# Altium schematic symbol library ADSP-BF548.Schlib: 1 symbol
Pins are listed as number, name and electrical type; pins without a type are passive.

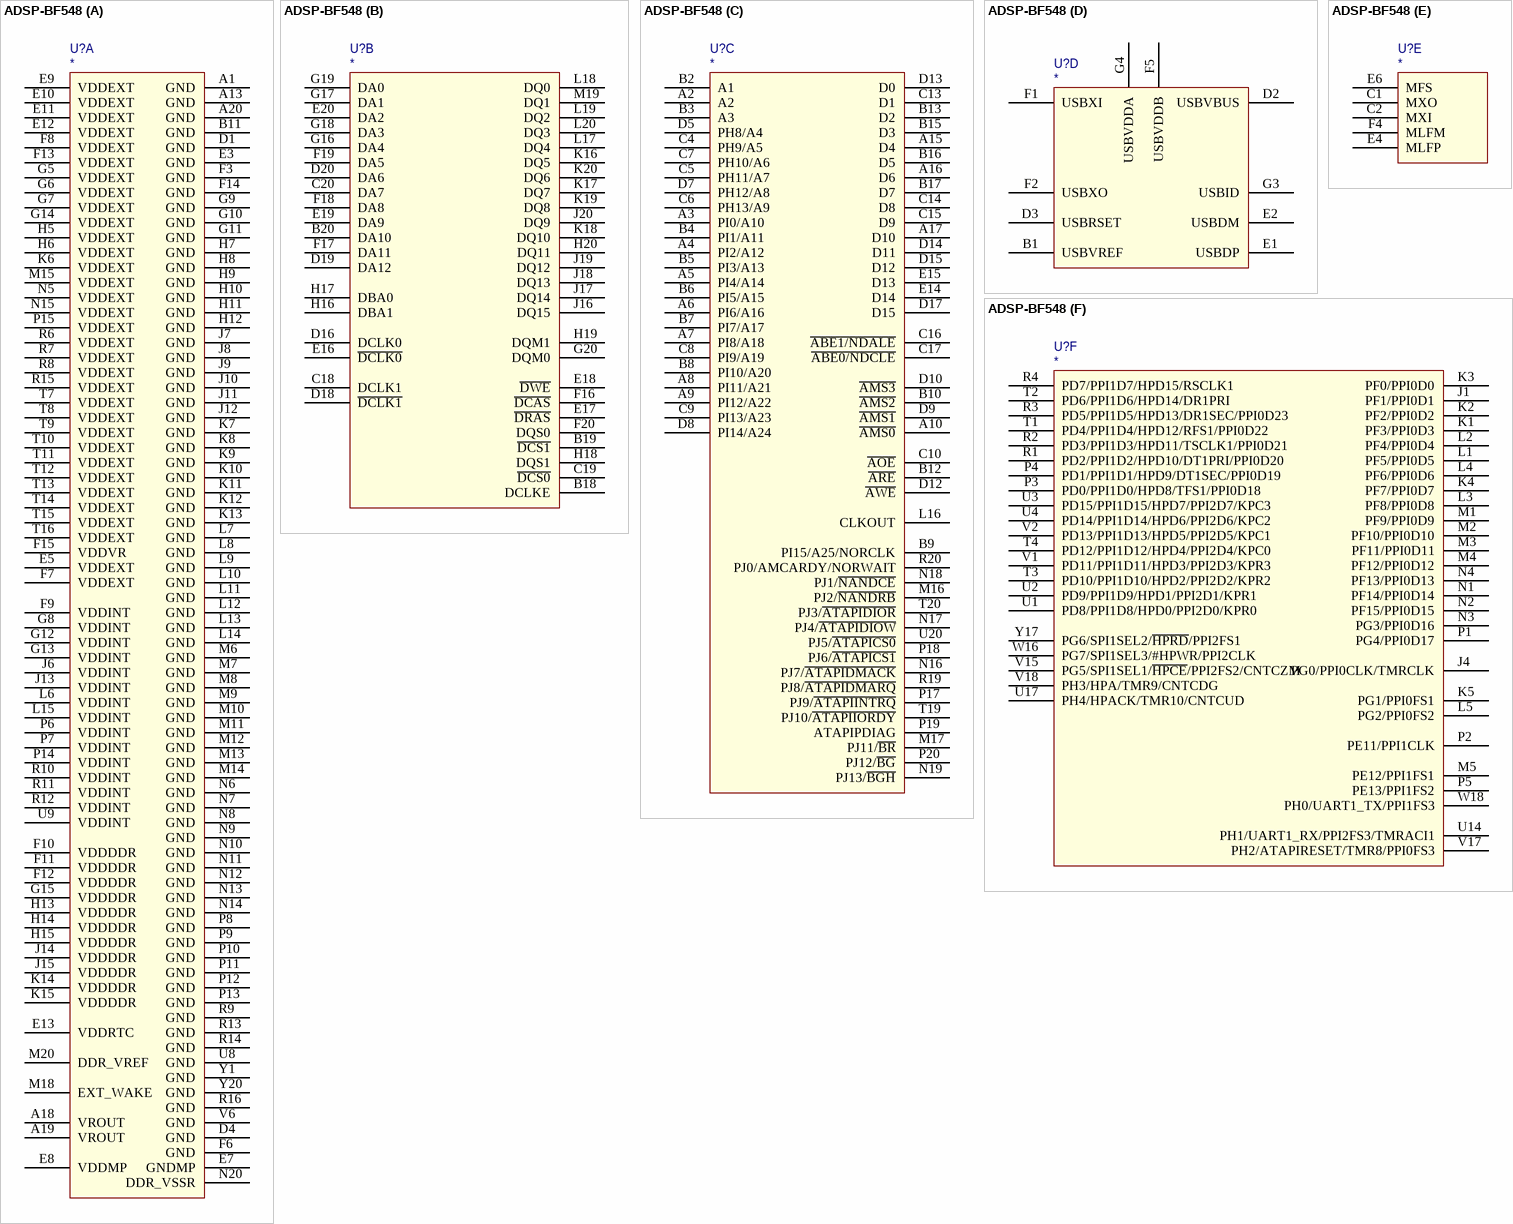
[diagram p0: symbol ADSP-BF548]

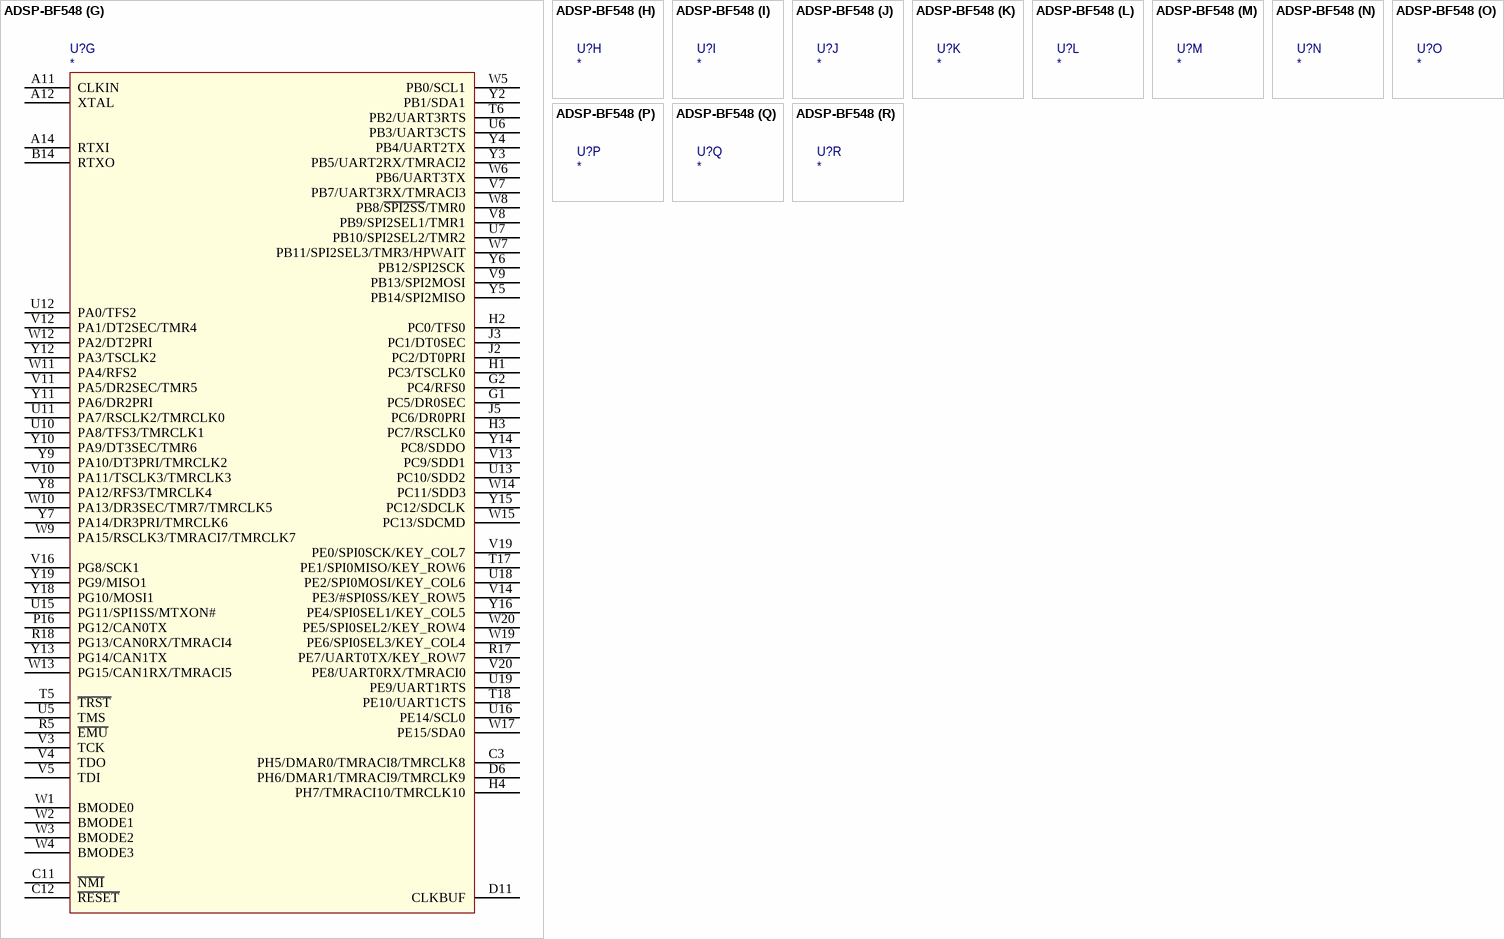
[diagram p1: symbol ADSP-BF548]

## ADSP-BF548
designator U?
signal-integrity model Model Name (Model Description)
part A pins: A1 GND (power), A13 GND (power), A18 VROUT, A19 VROUT, A20 GND (power), B11 GND (power), D1 GND (power), D4 GND (power), E3 GND (power), E5 VDDEXT (power), E7 GNDMP, E8 VDDMP, E9 VDDEXT (power), E10 VDDEXT (power), E11 VDDEXT (power), E12 VDDEXT (power), E13 VDDRTC (power), F3 GND (power), F6 GND (power), F7 VDDEXT (power), F8 VDDEXT (power), F9 VDDINT (power), F10 VDDDDR (power), F11 VDDDDR (power), F12 VDDDDR (power), F13 VDDEXT (power), F14 GND (power), F15 VDDVR (power), G5 VDDEXT (power), G6 VDDEXT (power), G7 VDDEXT (power), G8 VDDINT (power), G9 GND (power), G10 GND (power), G11 GND (power), G12 VDDINT (power), G13 VDDINT (power), G14 VDDEXT (power), G15 VDDDDR (power), H5 VDDEXT (power), H6 VDDEXT (power), H7 GND (power), H8 GND (power), H9 GND (power), H10 GND (power), H11 GND (power), H12 GND (power), H13 VDDDDR (power), H14 VDDDDR (power), H15 VDDDDR (power), J6 VDDINT (power), J7 GND (power), J8 GND (power), J9 GND (power), J10 GND (power), J11 GND (power), J12 GND (power), J13 VDDINT (power), J14 VDDDDR (power), J15 VDDDDR (power), K6 VDDEXT (power), K7 GND (power), K8 GND (power), K9 GND (power), K10 GND (power), K11 GND (power), K12 GND (power), K13 GND (power), K14 VDDDDR (power), K15 VDDDDR (power), L6 VDDINT (power), L7 GND (power), L8 GND (power), L9 GND (power), L10 GND (power), L11 GND (power), L12 GND (power), L13 GND (power), L14 GND (power), L15 VDDINT (power), M6 GND (power), M7 GND (power), M8 GND (power), M9 GND (power), M10 GND (power), M11 GND (power), M12 GND (power), M13 GND (power), M14 GND (power), M15 VDDEXT (power), M18 EXT_WAKE, M20 DDR_VREF, N5 VDDEXT (power), N6 GND (power), N7 GND (power), N8 GND (power), N9 GND (power), N10 GND (power), N11 GND (power), N12 GND (power), N13 GND (power), N14 GND (power), N15 VDDEXT (power), N20 DDR_VSSR, P6 VDDINT (power), P7 VDDINT (power), P8 GND (power), P9 GND (power), P10 GND (power), P11 GND (power), P12 GND (power), P13 GND (power), P14 VDDINT (power), P15 VDDEXT (power), R6 VDDEXT (power), R7 VDDEXT (power), R8 VDDEXT (power), R9 GND (power), R10 VDDINT (power), R11 VDDINT (power), R12 VDDINT (power), R13 GND (power), R14 GND (power), R15 VDDEXT (power), R16 GND (power), T7 VDDEXT (power), T8 VDDEXT (power), T9 VDDEXT (power), T10 VDDEXT (power), T11 VDDEXT (power), T12 VDDEXT (power), T13 VDDEXT (power), T14 VDDEXT (power), T15 VDDEXT (power), T16 VDDEXT (power), U8 GND (power), U9 VDDINT (power), V6 GND (power), Y1 GND (power), Y20 GND (power)
part B pins: B18 DCLKE, B19 ~{DCS1}, B20 DA10, C18 DCLK1, C19 ~{DCS0}, C20 DA7, D16 DCLK0, D18 ~{DCLK1}, D19 DA12, D20 DA6, E16 ~{DCLK0}, E17 ~{DRAS}, E18 ~{DWE}, E19 DA9, E20 DA2, F16 ~{DCAS}, F17 DA11, F18 DA8, F19 DA5, F20 DQS0, G16 DA4, G17 DA1, G18 DA3, G19 DA0, G20 DQM0, H16 DBA1, H17 DBA0, H18 DQS1, H19 DQM1, H20 DQ11, J16 DQ15, J17 DQ14, J18 DQ13, J19 DQ12, J20 DQ9, K16 DQ5, K17 DQ7, K18 DQ10, K19 DQ8, K20 DQ6, L17 DQ4, L18 DQ0, L19 DQ2, L20 DQ3, M19 DQ1
part C pins: A2, A3 PI0/A10, A4 PI2/A12, A5 PI4/A14, A6 PI6/A16, A7 PI8/A18, A8 PI11/A21, A9 PI12/A22, A10 ~{AMS0}, A15 D4, A16 D6, A17 D10, B2 A1, B3 A3, B4 PI1/A11, B5 PI3/A13, B6 PI5/A15, B7 PI7/A17, B8 PI10/A20, B9 PI15/A25/NORCLK, B10 ~{AMS2}, B12 ~{ARE}, B13 D2, B15 D3, B16 D5, B17 D7, C4 PH9/A5, C5 PH11/A7, C6 PH13/A9, C7 PH10/A6, C8 PI9/A19, C9 PI13/A23, C10 ~{AOE}, C13 D1, C14 D8, C15 D9, C16 ~{ABE1/NDALE}, C17 ~{ABE0/NDCLE}, D5 PH8/A4, D7 PH12/A8, D8 PI14/A24, D9 ~{AMS1}, D10 ~{AMS3}, D12 ~{AWE}, D13 D0, D14 D11, D15 D12, D17 D15, E14 D14, E15 D13, L16 CLKOUT, M16 PJ2/~{NANDRB}, M17 PJ11/~{BR}, N16 PJ7/~{ATAPIDMACK}, N17 PJ4/~{ATAPIDIOW}, N18 PJ1/~{NANDCE}, N19 PJ13/~{BGH}, P17 PJ9/~{ATAPIINTRQ}, P18 PJ6/~{ATAPICS1}, P19 ATAPIPDIAG, P20 PJ12/~{BG}, R19 PJ8/~{ATAPIDMARQ}, R20 PJ0/AMCARDY/NORWAIT, T19 PJ10/~{ATAPIIORDY}, T20 PJ3/~{ATAPIDIOR}, U20 PJ5/~{ATAPICS0}
part D pins: B1 USBVREF, D2 USBVBUS, D3 USBRSET, E1 USBDP, E2 USBDM, F1 USBXI, F2 USBXO, F5 USBVDDB, G3 USBID, G4 USBVDDA
part E pins: C1 MXO, C2 MXI, E4 MLFP, E6 MFS, F4 MLFM
part F pins: J1 PF1/PPI0D1, J4 PG0/PPI0CLK/TMRCLK, K1 PF3/PPI0D3, K2 PF2/PPI0D2, K3 PF0/PPI0D0, K4 PF7/PPI0D7, K5 PG1/PPI0FS1, L1 PF5/PPI0D5, L2 PF4/PPI0D4, L3 PF8/PPI0D8, L4 PF6/PPI0D6, L5 PG2/PPI0FS2, M1 PF9/PPI0D9, M2 PF10/PPI0D10, M3 PF11/PPI0D11, M4 PF12/PPI0D12, M5 PE12/PPI1FS1, N1 PF14/PPI0D14, N2 PF15/PPI0D15, N3 PG3/PPI0D16, N4 PF13/PPI0D13, P1 PG4/PPI0D17, P2 PE11/PPI1CLK, P3 PD0/PPI1D0/HPD8/TFS1/PPI0D18, P4 PD1/PPI1D1/HPD9/DT1SEC/PPI0D19, P5 PE13/PPI1FS2, R1 PD2/PPI1D2/HPD10/DT1PRI/PPI0D20, R2 PD3/PPI1D3/HPD11/TSCLK1/PPI0D21, R3 PD5/PPI1D5/HPD13/DR1SEC/PPI0D23, R4 PD7/PPI1D7/HPD15/RSCLK1, T1 PD4/PPI1D4/HPD12/RFS1/PPI0D22, T2 PD6/PPI1D6/HPD14/DR1PRI, T3 PD10/PPI1D10/HPD2/PPI2D2/KPR2, T4 PD12/PPI1D12/HPD4/PPI2D4/KPC0, U1 PD8/PPI1D8/HPD0/PPI2D0/KPR0, U2 PD9/PPI1D9/HPD1/PPI2D1/KPR1, U3 PD15/PPI1D15/HPD7/PPI2D7/KPC3, U4 PD14/PPI1D14/HPD6/PPI2D6/KPC2, U14 PH1/UART1_RX/PPI2FS3/TMRACI1, U17 PH4/HPACK/TMR10/CNTCUD, V1 PD11/PPI1D11/HPD3/PPI2D3/KPR3, V2 PD13/PPI1D13/HPD5/PPI2D5/KPC1, V15 PG5/SPI1SEL1/~{HPCE}/PPI2FS2/CNTCZM, V17 PH2/ATAPIRESET/TMR8/PPI0FS3, V18 PH3/HPA/TMR9/CNTCDG, W16 PG7/SPI1SEL3/#HPWR/PPI2CLK, W18 PH0/UART1_TX/PPI1FS3, Y17 PG6/SPI1SEL2/~{HPRD}/PPI2FS1
part G pins: A11 CLKIN, A12 XTAL, A14 RTXI, B14 RTXO, C3 PH5/DMAR0/TMRACI8/TMRCLK8, C11 ~{NMI}, C12 ~{RESET}, D6 PH6/DMAR1/TMRACI9/TMRCLK9, D11 CLKBUF, G1 PC5/DR0SEC, G2 PC4/RFS0, H1 PC3/TSCLK0, H2 PC0/TFS0, H3 PC7/RSCLK0, H4 PH7/TMRACI10/TMRCLK10, J2 PC2/DT0PRI, J3 PC1/DT0SEC, J5 PC6/DR0PRI, P16 PG12/CAN0TX, R5 ~{EMU}, R17 PE7/UART0TX/KEY_ROW7, R18 PG13/CAN0RX/TMRACI4, T5 ~{TRST}, T6 PB2/UART3RTS, T17 PE1/SPI0MISO/KEY_ROW6, T18 PE10/UART1CTS, U5 TMS, U6 PB3/UART3CTS, U7 PB10/SPI2SEL2/TMR2, U10 PA8/TFS3/TMRCLK1, U11 PA7/RSCLK2/TMRCLK0, U12 PA0/TFS2, U13 PC10/SDD2, U15 PG11/SPI1SS/MTXON#, U16 PE14/SCL0, U18 PE2/SPI0MOSI/KEY_COL6, U19 PE9/UART1RTS, V3 TCK, V4 TDO, V5 TDI, V7 PB7/UART3RX/TMRACI3, V8 PB9/SPI2SEL1/TMR1, V9 PB13/SPI2MOSI, V10 PA11/TSCLK3/TMRCLK3, V11 PA5/DR2SEC/TMR5, V12 PA1/DT2SEC/TMR4, V13 PC9/SDD1, V14 PE3/#SPI0SS/KEY_ROW5, V16 PG8/SCK1, V19 PE0/SPI0SCK/KEY_COL7, V20 PE8/UART0RX/TMRACI0, W1 BMODE0, W2 BMODE1, W3 BMODE2, W4 BMODE3, W5 PB0/SCL1, W6 PB6/UART3TX, W7 PB11/SPI2SEL3/TMR3/HPWAIT, W8 PB8/~{SPI2SS}/TMR0, W9 PA15/RSCLK3/TMRACI7/TMRCLK7, W10 PA13/DR3SEC/TMR7/TMRCLK5, W11 PA4/RFS2, W12 PA2/DT2PRI, W13 PG15/CAN1RX/TMRACI5, W14 PC11/SDD3, W15 PC13/SDCMD, W17 PE15/SDA0, W19 PE6/SPI0SEL3/KEY_COL4, W20 PE5/SPI0SEL2/KEY_ROW4, Y2 PB1/SDA1, Y3 PB5/UART2RX/TMRACI2, Y4 PB4/UART2TX, Y5 PB14/SPI2MISO, Y6 PB12/SPI2SCK, Y7 PA14/DR3PRI/TMRCLK6, Y8 PA12/RFS3/TMRCLK4, Y9 PA10/DT3PRI/TMRCLK2, Y10 PA9/DT3SEC/TMR6, Y11 PA6/DR2PRI, Y12 PA3/TSCLK2, Y13 PG14/CAN1TX, Y14 PC8/SDDO, Y15 PC12/SDCLK, Y16 PE4/SPI0SEL1/KEY_COL5, Y18 PG10/MOSI1, Y19 PG9/MISO1
2 alternate drawings of the same symbol